# Altium footprint library PCB - LEADLESS - LFPAK - NEXPERIA LFPAK56 SOT669.PcbLib: 1 footprints
Each footprint in its own frame and in the unit in brackets; x right, y up, seen from the top. Pads: shape width x height; smd on the part's side, far side on the other; paste and mask are expansions set on the pad; w line width, h text height; cw(c..) or ccw(c..) is an arc to the next point about the centre after c.
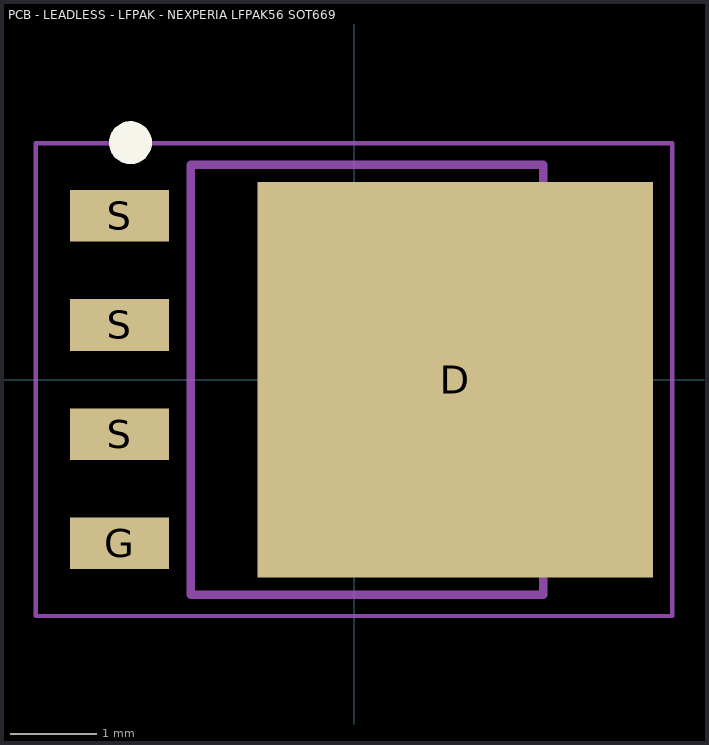
[diagram p0: the footprint, top view; thin cyan lines are the x and y axes]

## PCB - LEADLESS - LFPAK - NEXPERIA LFPAK56 SOT669 [mm]
height 1.35
pads (5):
  rect 4.6x4.6 smd: D(1.175,0)
  rect 1.15x0.6 smd: G(-2.725,-1.905) S(-2.725,-0.635) S(-2.725,0.635) S(-2.725,1.905)
Top Overlay:
  circle w0.25: c-2.6,2.755 r0.125
Mechanical 13:
  lines w0.1: -1.9,-2.5 2.2,-2.5 2.2,2.5 -1.9,2.5 -1.9,-2.5
Mechanical 15:
  lines w0.05: -3.7,-2.75 3.7,-2.75 3.7,2.75 -3.7,2.75 -3.7,-2.75
  lines w0.1: -0.5,0 0.5,0 ; 0,-0.5 0,0.5
3D body "User Library-SOT669.STEP": height 1.2, standoff 0, extent -3.2,-2.5 3.567,2.5